# EAGLE library part NINA-B111 (library ubloxLib)
NINA-B111: BLE stand-alone module u-blox.com
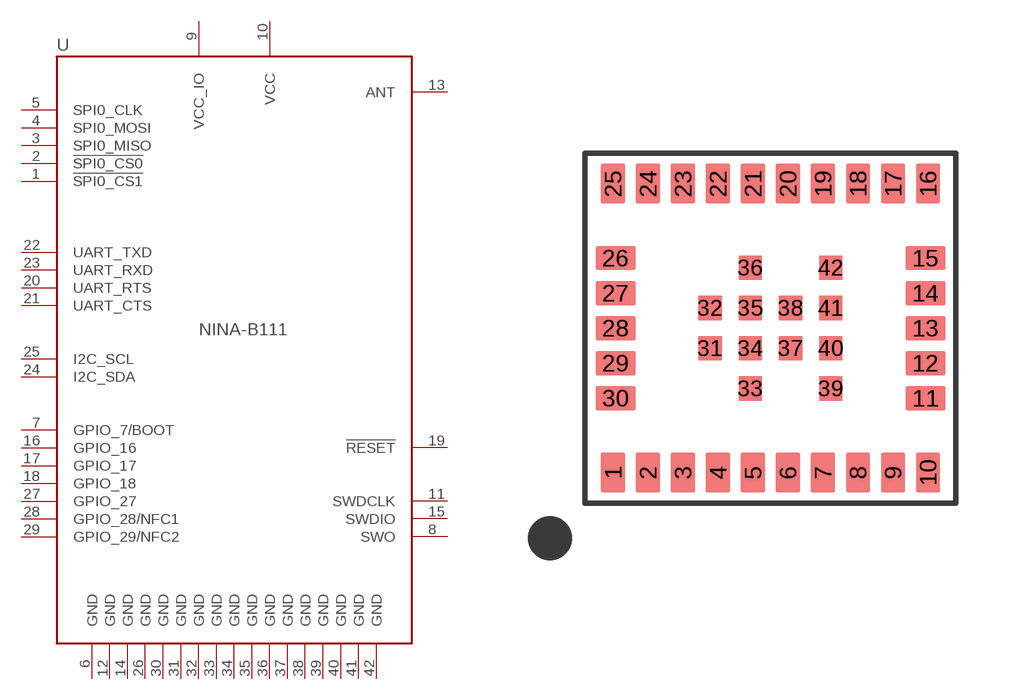
[diagram p10: symbol with the pads of NINA111-42; footprint NINA111-42]

Designator prefix U

## NINA-B111  [NINA111-42]
1  !SPI0_CS1!  out
2  !SPI0_CS0
3  SPI0_MISO
4  SPI0_MOSI
5  SPI0_CLK
6  GND  pwr
7  GPIO_7/BOOT
8  SWO  out
9  VCC_IO  pwr
10  VCC  pwr
11  SWDCLK  in
12  GND  pwr
13  ANT
14  GND  pwr
15  SWDIO
16  GPIO_16
17  GPIO_17
18  GPIO_18
19  !RESET  in
20  UART_RTS
21  UART_CTS
22  UART_TXD
23  UART_RXD
24  I2C_SDA
25  I2C_SCL
26  GND  pwr
27  GPIO_27
28  GPIO_28/NFC1
29  GPIO_29/NFC2
30  GND  pwr
31  GND  pwr
32  GND  pwr
33  GND  pwr
34  GND  pwr
35  GND  pwr
36  GND  pwr
37  GND  pwr
38  GND  pwr
39  GND  pwr
40  GND  pwr
41  GND  pwr
42  GND  pwr

## Footprint NINA111-42 (pad centres in mm)
NINA-B111: LGA Package 42 Pin u-blox.com
smd 0.7 x 1.15: 1 -4.5,-4.125; 2 -3.5,-4.125; 3 -2.5,-4.125; 4 -1.5,-4.125; 5 -0.5,-4.125; 6 0.5,-4.125; 7 1.5,-4.125; 8 2.5,-4.125; 9 3.5,-4.125; 10 4.5,-4.125; 16 4.5,4.125; 17 3.5,4.125; 18 2.5,4.125; 19 1.5,4.125; 20 0.5,4.125; 21 -0.5,4.125; 22 -1.5,4.125; 23 -2.5,4.125; 24 -3.5,4.125; 25 -4.5,4.125
smd 1.15 x 0.7: 11 4.425,-2; 12 4.425,-1; 13 4.425,0; 14 4.425,1; 15 4.425,2; 26 -4.425,2; 27 -4.425,1; 28 -4.425,0; 29 -4.425,-1; 30 -4.425,-2
smd 0.7 x 0.7: 31 -1.725,-0.575; 32 -1.725,0.575; 33 -0.575,-1.725; 34 -0.575,-0.575; 35 -0.575,0.575; 36 -0.575,1.725; 37 0.575,-0.575; 38 0.575,0.575; 39 1.725,-1.725; 40 1.725,-0.575; 41 1.725,0.575; 42 1.725,1.725